# EAGLE library part NDC7002N (library Kunosheru)
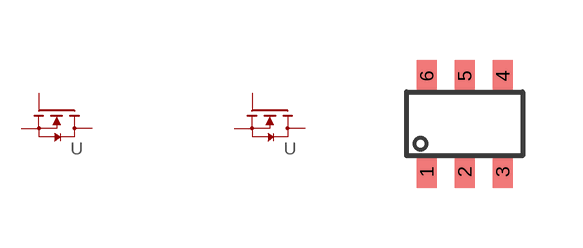
[diagram p14: symbol with the pads of SOT-23-6; footprint SOT-23-6]

Designator prefix -

## NDC7002N  [SOT-23-6]
1  G1  pas
2  S2  pas
3  G2  pas
4  D2  pas
5  S1  pas
6  D1  pas

## Footprint SOT-23-6 (pad centres in mm)
smd 0.5 x 0.8: 1 -0.95,-1.2; 2 0,-1.2; 3 0.95,-1.2; 4 0.95,1.2; 5 0,1.2; 6 -0.95,1.2